# Altium footprint library PR4.060.0161.PcbLib: 1 footprints
Each footprint in its own frame and in the unit in brackets; x right, y up, seen from the top. Pads: shape width x height; smd on the part's side, far side on the other; paste and mask are expansions set on the pad; w line width, h text height; cw(c..) or ccw(c..) is an arc to the next point about the centre after c.
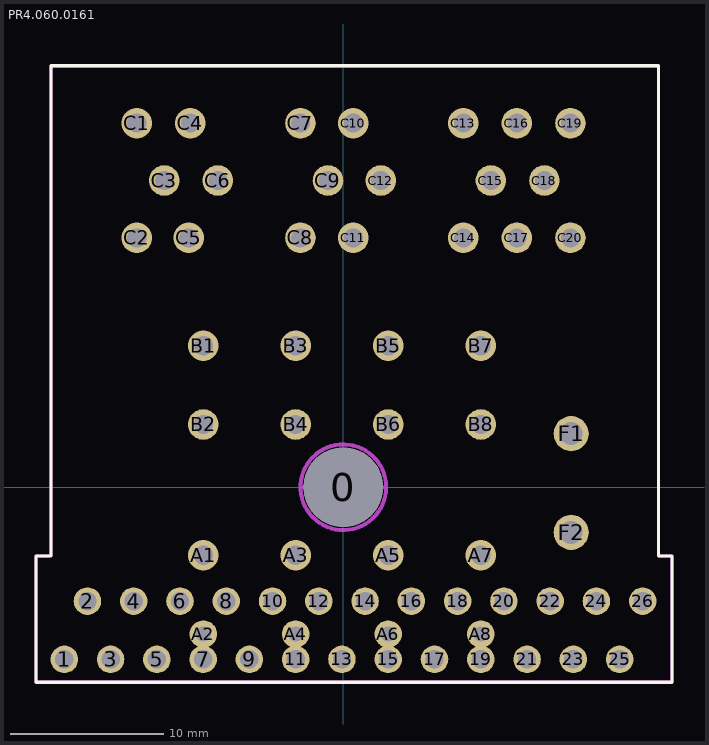
[diagram p0: the footprint, top view; thin cyan lines are the x and y axes]

## PR4.060.0161 [mm]
pads (65):
  round 5.2 hole 5.2: 0(0,0)
  round 1.8 hole 1.2: 1(-18.238,-11.25) 2(-16.725,-7.45) 3(-15.213,-11.25) 4(-13.7,-7.45) 5(-12.188,-11.25) 6(-10.675,-7.45) 7(-9.163,-11.25) 8(-7.65,-7.45) 9(-6.138,-11.25) 10(-4.625,-7.45) 11(-3.113,-11.25) 12(-1.6,-7.45) 13(-0.088,-11.25) 14(1.425,-7.45) 15(2.938,-11.25) 16(4.45,-7.45) 17(5.963,-11.25) 18(7.475,-7.45) 19(8.988,-11.25) 20(10.5,-7.45) 21(12.013,-11.25) 22(13.525,-7.45) 23(15.038,-11.25) 24(16.55,-7.45) 25(18.063,-11.25) 26(19.575,-7.45)
  round 2 hole 1.25: A1(-9.15,-4.45) A3(-3.113,-4.45) A5(2.938,-4.45) A7(8.988,-4.45) B1(-9.15,9.25) B2(-9.15,4.1) B3(-3.113,9.25) B4(-3.113,4.1) B5(2.938,9.25) B6(2.938,4.1) B7(8.988,9.25) B8(8.988,4.1) C1(-13.5,23.8) C2(-13.5,16.3) C3(-11.7,20.05) C4(-10,23.8) C5(-10.1,16.3) C6(-8.2,20.05) C7(-2.8,23.8) C8(-2.8,16.3) C9(-1,20.05) C10(0.65,23.8) C11(0.65,16.3) C12(2.45,20.05) C13(7.85,23.8) C14(7.85,16.3) C15(9.65,20.05) C16(11.35,23.8) C17(11.35,16.3) C18(13.15,20.05) C19(14.85,23.8) C20(14.85,16.3)
  round 1.8 hole 1: A2(-9.15,-9.6) A4(-3.113,-9.6) A6(2.938,-9.6) A8(8.988,-9.6)
  round 2.3 hole 1.5: F1(14.9,3.5) F2(14.9,-2.95)
Top Overlay:
  lines w0.2: -19.2,-4.5 -20.1,-4.5 -20.1,-12.749 21.5,-12.749 21.5,-4.5 20.6,-4.5 20.6,27.551 -19.1,27.551 ; -19.1,-4.5 -19.1,27.551 ; -19.1,27.551 -19.1,27.551
Keep-Out Layer:
  circle w0.254: c0,0 r2.8
  lines w0.2: -19.2,-4.5 -20.1,-4.5 -20.1,-12.749 21.5,-12.749 21.5,-4.5 20.6,-4.5 20.6,27.551 -19.1,27.551 -19.1,-4.5
Mechanical 1:
  circle w0.254: c0,0 r2.8
  lines w0.2: -19.2,-4.5 -20.1,-4.5 -20.1,-12.749 21.5,-12.749 21.5,-4.5 20.6,-4.5 20.6,27.551 -19.1,27.551 -19.1,-4.5 ; -2.8,0 2.8,0 ; 0,-2.5 0,2.5
3D body "JZ10-20210722.stp": height 22.5, standoff -4.2, extent -20.237,-16.007 22.015,30.493